# EAGLE library part SERVO-20 (library connector)
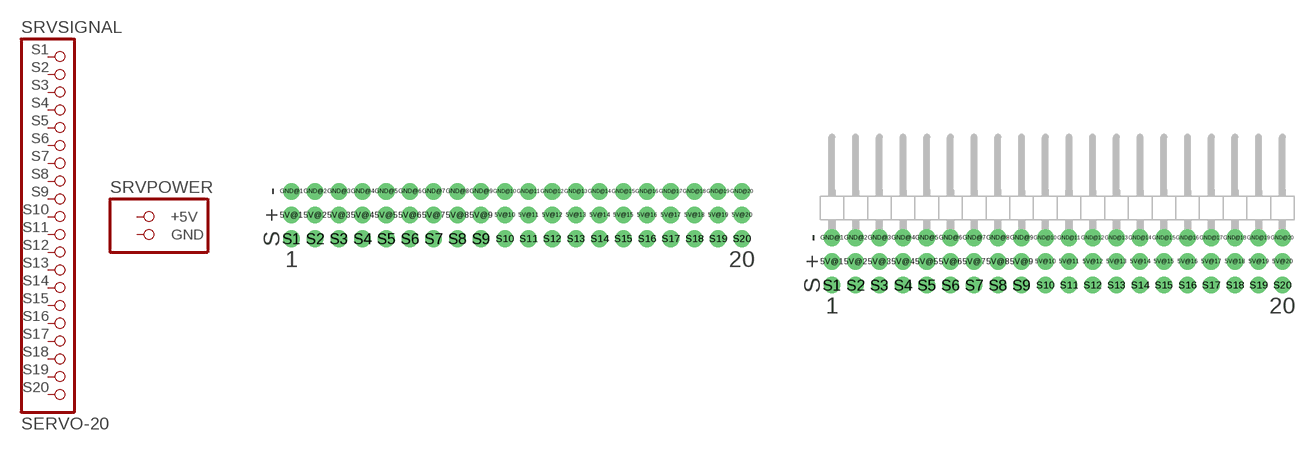
[diagram p12: symbol with the pads of SERVO-20; footprints SERVO-20, SERVO-20/90]

Designator prefix SRV; gates SIGNAL=HEADER-20POS POWER=PWR5V

## SERVO-20  [SERVO-20]
5V@1  POWER:+5V  pwr
5V@2  POWER:+5V  pwr
5V@3  POWER:+5V  pwr
5V@4  POWER:+5V  pwr
5V@5  POWER:+5V  pwr
5V@6  POWER:+5V  pwr
5V@7  POWER:+5V  pwr
5V@8  POWER:+5V  pwr
5V@9  POWER:+5V  pwr
5V@10  POWER:+5V  pwr
5V@11  POWER:+5V  pwr
5V@12  POWER:+5V  pwr
5V@13  POWER:+5V  pwr
5V@14  POWER:+5V  pwr
5V@15  POWER:+5V  pwr
5V@16  POWER:+5V  pwr
5V@17  POWER:+5V  pwr
5V@18  POWER:+5V  pwr
5V@19  POWER:+5V  pwr
5V@20  POWER:+5V  pwr
GND@1  POWER:GND  pwr
GND@2  POWER:GND  pwr
GND@3  POWER:GND  pwr
GND@4  POWER:GND  pwr
GND@5  POWER:GND  pwr
GND@6  POWER:GND  pwr
GND@7  POWER:GND  pwr
GND@8  POWER:GND  pwr
GND@9  POWER:GND  pwr
GND@10  POWER:GND  pwr
GND@11  POWER:GND  pwr
GND@12  POWER:GND  pwr
GND@13  POWER:GND  pwr
GND@14  POWER:GND  pwr
GND@15  POWER:GND  pwr
GND@16  POWER:GND  pwr
GND@17  POWER:GND  pwr
GND@18  POWER:GND  pwr
GND@19  POWER:GND  pwr
GND@20  POWER:GND  pwr
S1  SIGNAL:P$1
S2  SIGNAL:P$2
S3  SIGNAL:P$3
S4  SIGNAL:P$4
S5  SIGNAL:P$5
S6  SIGNAL:P$6
S7  SIGNAL:P$7
S8  SIGNAL:P$8
S9  SIGNAL:P$9
S10  SIGNAL:P$10
S11  SIGNAL:P$11
S12  SIGNAL:P$12
S13  SIGNAL:P$13
S14  SIGNAL:P$14
S15  SIGNAL:P$15
S16  SIGNAL:P$16
S17  SIGNAL:P$17
S18  SIGNAL:P$18
S19  SIGNAL:P$19
S20  SIGNAL:P$20

## SERVO-20/90  [SERVO-20/90]
Pads as for SERVO-20

## Footprint SERVO-20 (pad centres in mm)
drill 1 pad 1.778: 5V@1 -25.4,0; 5V@2 -22.86,0; 5V@3 -20.32,0; 5V@4 -17.78,0; 5V@5 -15.24,0; 5V@6 -12.7,0; 5V@7 -10.16,0; 5V@8 -7.62,0; 5V@9 -5.08,0; 5V@10 -2.54,0; 5V@11 0,0; 5V@12 2.54,0; 5V@13 5.08,0; 5V@14 7.62,0; 5V@15 10.16,0; 5V@16 12.7,0; 5V@17 15.24,0; 5V@18 17.78,0; 5V@19 20.32,0; 5V@20 22.86,0; GND@1 -25.4,2.54; GND@2 -22.86,2.54; GND@3 -20.32,2.54; GND@4 -17.78,2.54; GND@5 -15.24,2.54; GND@6 -12.7,2.54; GND@7 -10.16,2.54; GND@8 -7.62,2.54; GND@9 -5.08,2.54; GND@10 -2.54,2.54; GND@11 0,2.54; GND@12 2.54,2.54; GND@13 5.08,2.54; GND@14 7.62,2.54; GND@15 10.16,2.54; GND@16 12.7,2.54; GND@17 15.24,2.54; GND@18 17.78,2.54; GND@19 20.32,2.54; GND@20 22.86,2.54; S1 -25.4,-2.54; S2 -22.86,-2.54; S3 -20.32,-2.54; S4 -17.78,-2.54; S5 -15.24,-2.54; S6 -12.7,-2.54; S7 -10.16,-2.54; S8 -7.62,-2.54; S9 -5.08,-2.54; S10 -2.54,-2.54; S11 0,-2.54; S12 2.54,-2.54; S13 5.08,-2.54; S14 7.62,-2.54; S15 10.16,-2.54; S16 12.7,-2.54; S17 15.24,-2.54; S18 17.78,-2.54; S19 20.32,-2.54; S20 22.86,-2.54

## Footprint SERVO-20/90 (pad centres in mm)
drill 1 pad 1.778: 5V@1 -25.4,0; 5V@2 -22.86,0; 5V@3 -20.32,0; 5V@4 -17.78,0; 5V@5 -15.24,0; 5V@6 -12.7,0; 5V@7 -10.16,0; 5V@8 -7.62,0; 5V@9 -5.08,0; 5V@10 -2.54,0; 5V@11 0,0; 5V@12 2.54,0; 5V@13 5.08,0; 5V@14 7.62,0; 5V@15 10.16,0; 5V@16 12.7,0; 5V@17 15.24,0; 5V@18 17.78,0; 5V@19 20.32,0; 5V@20 22.86,0; GND@1 -25.4,2.54; GND@2 -22.86,2.54; GND@3 -20.32,2.54; GND@4 -17.78,2.54; GND@5 -15.24,2.54; GND@6 -12.7,2.54; GND@7 -10.16,2.54; GND@8 -7.62,2.54; GND@9 -5.08,2.54; GND@10 -2.54,2.54; GND@11 0,2.54; GND@12 2.54,2.54; GND@13 5.08,2.54; GND@14 7.62,2.54; GND@15 10.16,2.54; GND@16 12.7,2.54; GND@17 15.24,2.54; GND@18 17.78,2.54; GND@19 20.32,2.54; GND@20 22.86,2.54; S1 -25.4,-2.54; S2 -22.86,-2.54; S3 -20.32,-2.54; S4 -17.78,-2.54; S5 -15.24,-2.54; S6 -12.7,-2.54; S7 -10.16,-2.54; S8 -7.62,-2.54; S9 -5.08,-2.54; S10 -2.54,-2.54; S11 0,-2.54; S12 2.54,-2.54; S13 5.08,-2.54; S14 7.62,-2.54; S15 10.16,-2.54; S16 12.7,-2.54; S17 15.24,-2.54; S18 17.78,-2.54; S19 20.32,-2.54; S20 22.86,-2.54